# Altium schematic symbol library IN-S42ATR.SchLib: 1 symbol
Pins are listed as number, name and electrical type; pins without a type are passive.

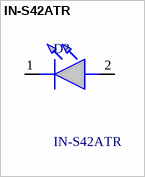
[diagram p0: symbol IN-S42ATR]

## IN-S42ATR
designator D?
LED Uni-Color Red 645nm 2-Pin Chip 0402(1006Metric) T/R; Manufacturer_Name: Inolux; Geometry.Height: 0.55mm; Mouser Part Number: 743-IN-S42ATR; Mouser Price/Stock: https://www.mouser.co.uk/ProductDetail/Inolux/IN-S42ATR?qs=qSfuJ%252Bfl%2Fd5DK2RxkNJ2Zg%3D%3D; Manufacturer_Part_Number: IN-S42ATR; Datasheet Link: http://www.inolux-corp.com/datasheet/SMDLED/Mono%20Color%20Top%20View/IN-S42AT%20Series_V1.1.pdf
footprint LEDC1005X55N
pins: 1 K, 2 A